# Altium schematic symbol library SPB_Diodes.SchLib: 15 symbols
Pins are listed as number, name and electrical type; pins without a type are passive.

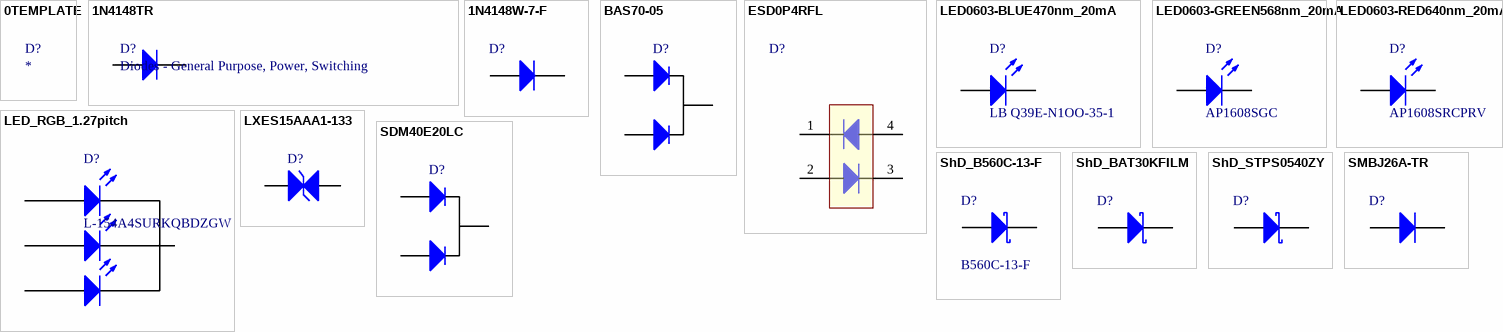
[diagram p0: symbols 0TEMPLATE to SMBJ26A-TR]

## 0TEMPLATE
designator D?
Supplier 1: Mouser; Supplier 2: Digi-Key; Supplier Part Number 2: *; Supplier Part Number 1: *; Manufacturer Part Number: *; Mouser Part #: *; Digi-Key Part Number: *

## 1N4148TR
designator D?, comment Diodes - General Purpose, Power, Switching
Diodes - General Purpose, Power, Switching 100V Io/150mA T/R; Manufacturer Part Number: 1N4148TR; Supplier 1: Mouser; Supplier 2: Digi-Key; Supplier Part Number 2: 78-1N4148; Supplier Part Number 1: *; Mouser Part #: 78-1N4148; Digi-Key Part Number: *
footprint DO-35 (Diode, Axial; Body 3.8 x 1.9 mm (LxDia. max), Lead Dia. 0.53 mm (max))
pins: 1 A, 2 K

## 1N4148W-7-F
designator D?  (value not drawn)
Diodes - General Purpose, Power, Switching SURFACE MOUNT FAST SWITCHING DIODE; Mouser Part #: 621-1N4148W-F; Manufacturer Part Number: 1N4148W-7-F
footprint SOD3716X115N
pins: 1 A, 2 K

## BAS70-05
designator D?, comment BAS7005E6327HTSA1  (value not drawn)
Schottky Diodes & Rectifiers 70V 0.07A; Mouser Part #: 726-BAS7005E6327HTSA; Manufacturer Part Number: BAS7005E6327HTSA1
footprint SOT23_M (SOT23, 3-Leads, Body 2.9x1.3mm, Pitch 0.95mm, Lead Span 2.3mm - Reverse Pinning, IPC Low Density)
pins: 1, 2, 3

## ESD0P4RFL
designator D?, comment ESD0P4RFLE6327XTSA1  (value not drawn)
ESD Suppressors / TVS Diodes RF ESD Protection Didode; Mouser Part #: 726-ESD0P4RFLE6327XT; Manufacturer Part Number: ESD0P4RFLE6327XTSA1
footprint TSLP-4-7 (ESD Suppressors / TVS Diodes RF ESD Protection Didode)
pins: 1, 2, 3, 4

## LED0603-BLUE470nm_20mA
designator D?, comment LB Q39E-N1OO-35-1
Standard LEDs - SMD GREEN WATER CLEAR; Mouser Part #: 720-LBQ39EN1P1351; Manufacturer Part Number: LB Q39E-N1OO-35-1
footprint 0603_LED_BLUE (0603-LED)
pins: A, K

## LED0603-GREEN568nm_20mA
designator D?, comment AP1608SGC
Standard LEDs - SMD GREEN WATER CLEAR; Mouser Part #: 604-AP1608SGC; Manufacturer Part Number: AP1608SGC
footprint 0603_LED_GREEN (0603-LED)
pins: A, K

## LED0603-RED640nm_20mA
designator D?, comment AP1608SRCPRV
Standard LEDs - SMD GREEN WATER CLEAR; Mouser Part #: 604-AP1608SRCPRV; Manufacturer Part Number: AP1608SRCPRV
footprint 0603_LED_RED (0603-LED)
pins: A, K

## LED_RGB_1.27pitch
designator D?, comment L-154A4SURKQBDZGW
T-1 3/4 (5mm) FULL COLOR LED LAMP; Manufacturer Part Number: L-154A4SURKQBDZGW
pins: A, A, A, K, K, K

## LXES15AAA1-133
designator D?  (value not drawn)
TVS DIODE 15V 1005; Manufacturer Part Number: LXES15AAA1-133; DigiKey Part Number: 490-13209-1-ND
footprint RESC1005X35N(0402) (Chip Resistor, EIA 0402, Metric 1005, Body 1.0x0.5mm, IPC Medium Density)
pins: 1, 2

## SDM40E20LC
designator D?, comment SDM40E20LC-7  (value not drawn)
Diode Array 1 Pair Common Cathode Schottky 20V 400mA (DC) Surface Mount SOT-23-3; Mouser Part #: 621-SDM40E20LC-7; Manufacturer Part Number: SDM40E20LC-7; DigiKey Part Number: SDM40E20LC-7DICT-ND
footprint SOT23_M (SOT23, 3-Leads, Body 2.9x1.3mm, Pitch 0.95mm, Lead Span 2.3mm - Reverse Pinning, IPC Low Density)
pins: 1, 2, 3

## ShD_B560C-13-F
designator D?, comment B560C-13-F
Schottky Diodes & Rectifiers 60V 5A; Mouser Part #: 621-B560C-F; Manufacturer Part Number: B560C-13-F
footprint SMC (DO-214-AB/SMC; 2 C-Bend Leads; Body 7.9 x 5.9 mm, inc. leads (LxW))
pins: 1 A, 2 K

## ShD_BAT30KFILM
designator D?, comment BAT30KFILM  (value not drawn)
Schottky Diodes & Rectifiers schottky diode; Mouser Part #: 511-BAT30KFILM; Manufacturer Part Number: BAT30KFILM
footprint SOD523 (SODFL, 2-Leads, Body 0.80x1.60mm, IPC Medium Density)
pins: 1 A, 2 K

## ShD_STPS0540ZY
designator D?, comment STPS0540ZY  (value not drawn)
Schottky Diodes & Rectifiers 40V Automotive REC 0.5A 0.50V VF; Mouser Part #: 511-STPS0540ZY; Manufacturer Part Number: STPS0540ZY
footprint SODFL350X110-2N (SODFL, 2-Leads, Body 1.70x3.50mm, IPC Medium Density)
pins: 1 A, 2 K

## SMBJ26A-TR
designator D?  (value not drawn)
ESD Suppressors / TVS Diodes 600W 26V Unidirect; Mouser Part #: 511-SMBJ26A; Manufacturer Part Number: SMBJ26A-TR
footprint SMB (DO-214-AA/SMB; 2 C-Bend Leads; Body 5.3 x 3.6 mm, inc. leads (LxW))
pins: 1 A, 2 K